# Altium schematic symbol library 101-0000212_UBERCLOCK_CRYSTAL_FILTER.SchLib: 5 symbols
Pins are listed as number, name and electrical type; pins without a type are passive.

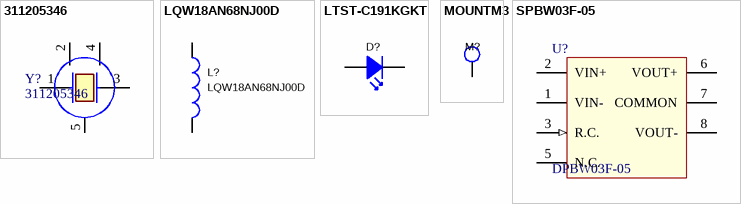
[diagram p0: symbols 311205346 to SPBW03F-05]

## 311205346
designator Y?
CUSTOM CRYSTAL RESONATOR; MFG: Vectron; MPN: 311205346
footprint CRYSTAL/TH (Crystal through hole)
footprint 311205346
pins: 1, 2, 3, 4, 5

## LQW18AN68NJ00D
designator L?
FIXED IND 68NH 340MA 0.38OHM SMD; MFG: MURATA; MPN: LQW18AN68NJ00D; Package: 0603; Value: 68nH
footprint INDC1608X08N (Chip Inductor, 2-Leads, Body 1.60x0.80mm, IPC Medium Density)
pins: 1, 2

## LTST-C191KGKT
designator D?  (value not drawn)
LED GREEN CLEAR SMD; MFG: LITE-ON INC; MPN: LTST-C191KGKT
footprint 0603_LED (SMD; Body 1.6 x 0.9 mm (LxW typ))
pins: 1 A, 2 K

## MOUNTM3
designator M?  (value not drawn)  (no BOM)
M3 MOUNTING HOLE
footprint MOUNTM3
pins: 1

## SPBW03F-05
designator U?, comment DPBW03F-05
DC DC CONVERTER +/-5V 3W; MFG: MEAN WELL; MPN: DPBW03F-05
footprint SPBW03F-05_MWU
pins: 1 VIN- (power), 2 VIN+ (power), 3 R.C. (in), 5 N.C., 6 VOUT+ (power), 7 COMMON (power), 8 VOUT- (power)